# Altium schematic symbol library 10103594-0001LF.Schlib: 1 symbol
Pins are listed as number, name and electrical type; pins without a type are passive.

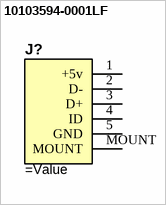
[diagram p0: symbol 10103594-0001LF]

## 10103594-0001LF
designator J?
CONN RCPT STD MICRO USB TYPE B
pins: 1 +5v, 2 D-, 3 D+, 4 ID, 5 GND, MOUNT